# Altium schematic symbol library LimeMicroAltiumLib_schLib.SchLib: 199 symbols (part 5 of 8)
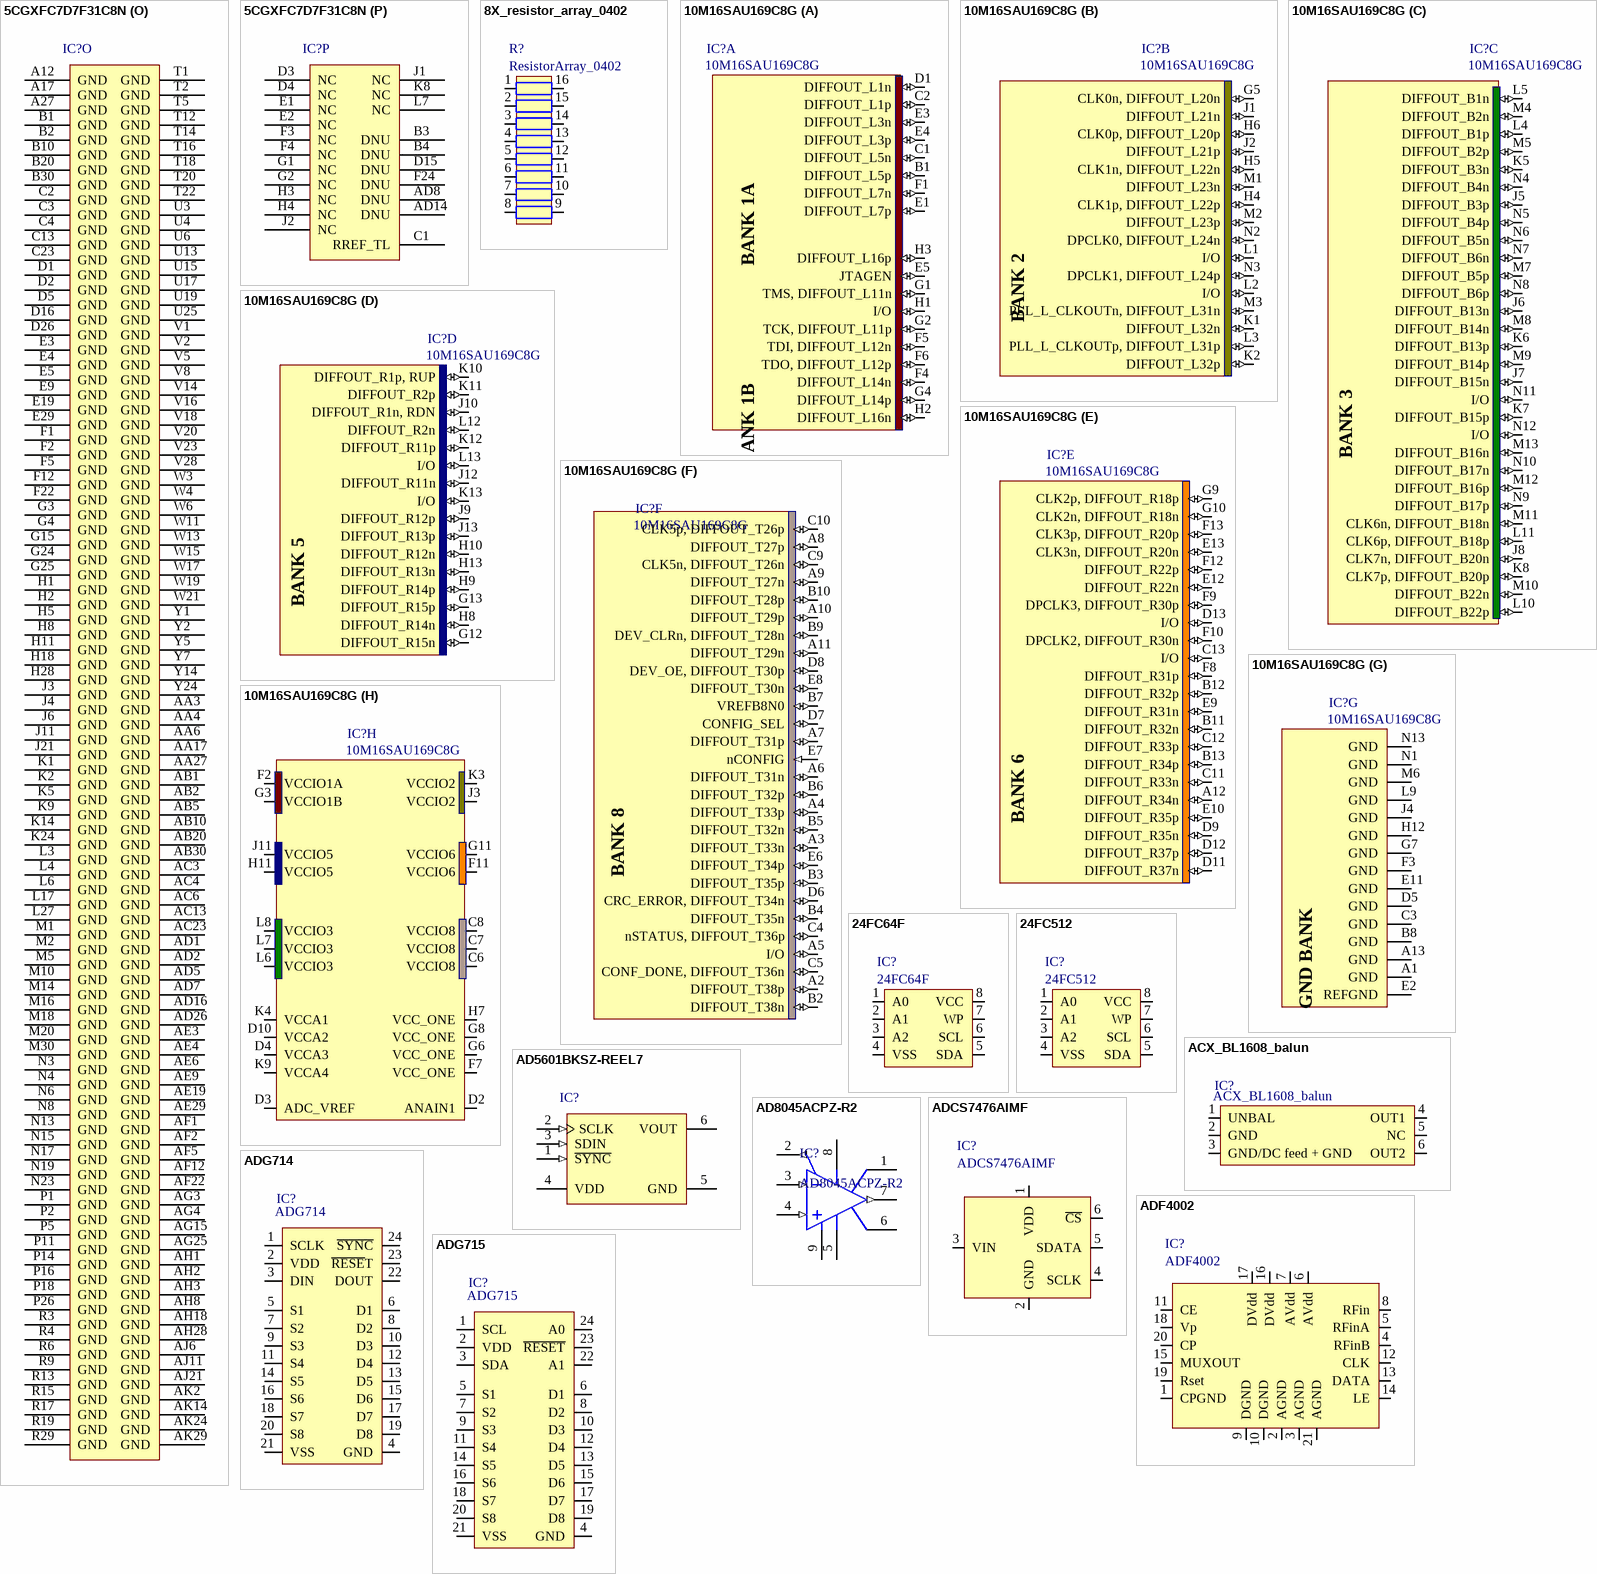
[diagram p38: symbols 5CGXFC7D7F31C8N to ADG715]

## ADF4002
designator IC?
Manufacturer: Analog Devices Inc; Manufacturer Part Number 1: ADF4002BCPZ-RL7; Ratio - Input:Output: 2:1; Differential - Input:Output: Yes/No; Input: CMOS, TTL; Voltage - Supply: 2.7 V ~ 3.3 V; Supplier 1: Digi-Key; Supplier: Digi-Key; Category: Integrated Circuits (ICs); Type: Clock/Frequency Synthesizer (RF), Phase Detector; Operating Temperature: -40°C ~ 85°C; Mounting Type: Surface Mount; Package / Case: 20-VFQFN Exposed Pad, CSP; Supplier Part Number 1: ADF4002BCPZ-RL7CT-ND
footprint ADF4002
pins: 1 CPGND, 2 AGND, 3 AGND, 4 RFinB, 5 RFinA, 6 AVdd, 7 AVdd, 8 RFin, 9 DGND, 10 DGND, 11 CE, 12 CLK, 13 DATA, 14 LE, 15 MUXOUT, 16 DVdd, 17 DVdd, 18 Vp, 19 Rset, 20 CP, 21 AGND

## ADG714
designator IC?
Manufacturer Part Number: ADG715BRUZ; Manufacturer: ANALOG DEVICES; No. of Pins: 24; Analog Switch Case: TSSOP; Analog Switch Type: SPST; Supply Voltage Range: 2.7V to 5.5; On State Resistance Max: 4.5; No. of Channels: 8; Supplier 1: Newark; Operating Temperature Min: -40; RoHS: YES; Supplier Part Number 1: 19M0686
footprint ADG714 (TSOP, 24-Leads, Body 7,80x4,40mm, Pitch 0,65mm, IPC Medium Density)
pins: 1 SCLK, 2 VDD, 3 DIN, 4 GND, 5 S1, 6 D1, 7 S2, 8 D2, 9 S3, 10 D3, 11 S4, 12 D4, 13 D5, 14 S5, 15 D6, 16 S6, 17 D7, 18 S7, 19 D8, 20 S8, 21 VSS, 22 DOUT, 23 ~{RESE}T, 24 ~{SYNC}

## ADG715
designator IC?
Manufacturer: Analog Devices Inc; Manufacturer Part Number 1: ADG715BRUZ; Current - Supply: 10µA; On-State Resistance: 4.5 Ohm; Voltage Supply Source: Single, Dual Supply; Function: Switch; Voltage - Supply, Single/Dual (±): 2.7 V ~ 5.5 V, ±2.5V; Circuit: 8 x SPST - NO; Supplier 1: Digi-Key; RoHS: RoHS Compliant; Operating Temperature: -40°C ~ 85°C; Package / Case: 24-TSSOP (0.173", 4.40mm Width); Category: Integrated Circuits (ICs); Supplier Device Package: 24-TSSOP; Packaging: Tube; Mounting Type: Surface Mount; Supplier Part Number 1: ADG715BRUZ-ND
footprint ADG714 (TSOP, 24-Leads, Body 7,80x4,40mm, Pitch 0,65mm, IPC Medium Density)
pins: 1 SCL, 2 VDD, 3 SDA, 4 GND, 5 S1, 6 D1, 7 S2, 8 D2, 9 S3, 10 D3, 11 S4, 12 D4, 13 D5, 14 S5, 15 D6, 16 S6, 17 D7, 18 S7, 19 D8, 20 S8, 21 VSS, 22 A1, 23 ~{RESET}, 24 A0

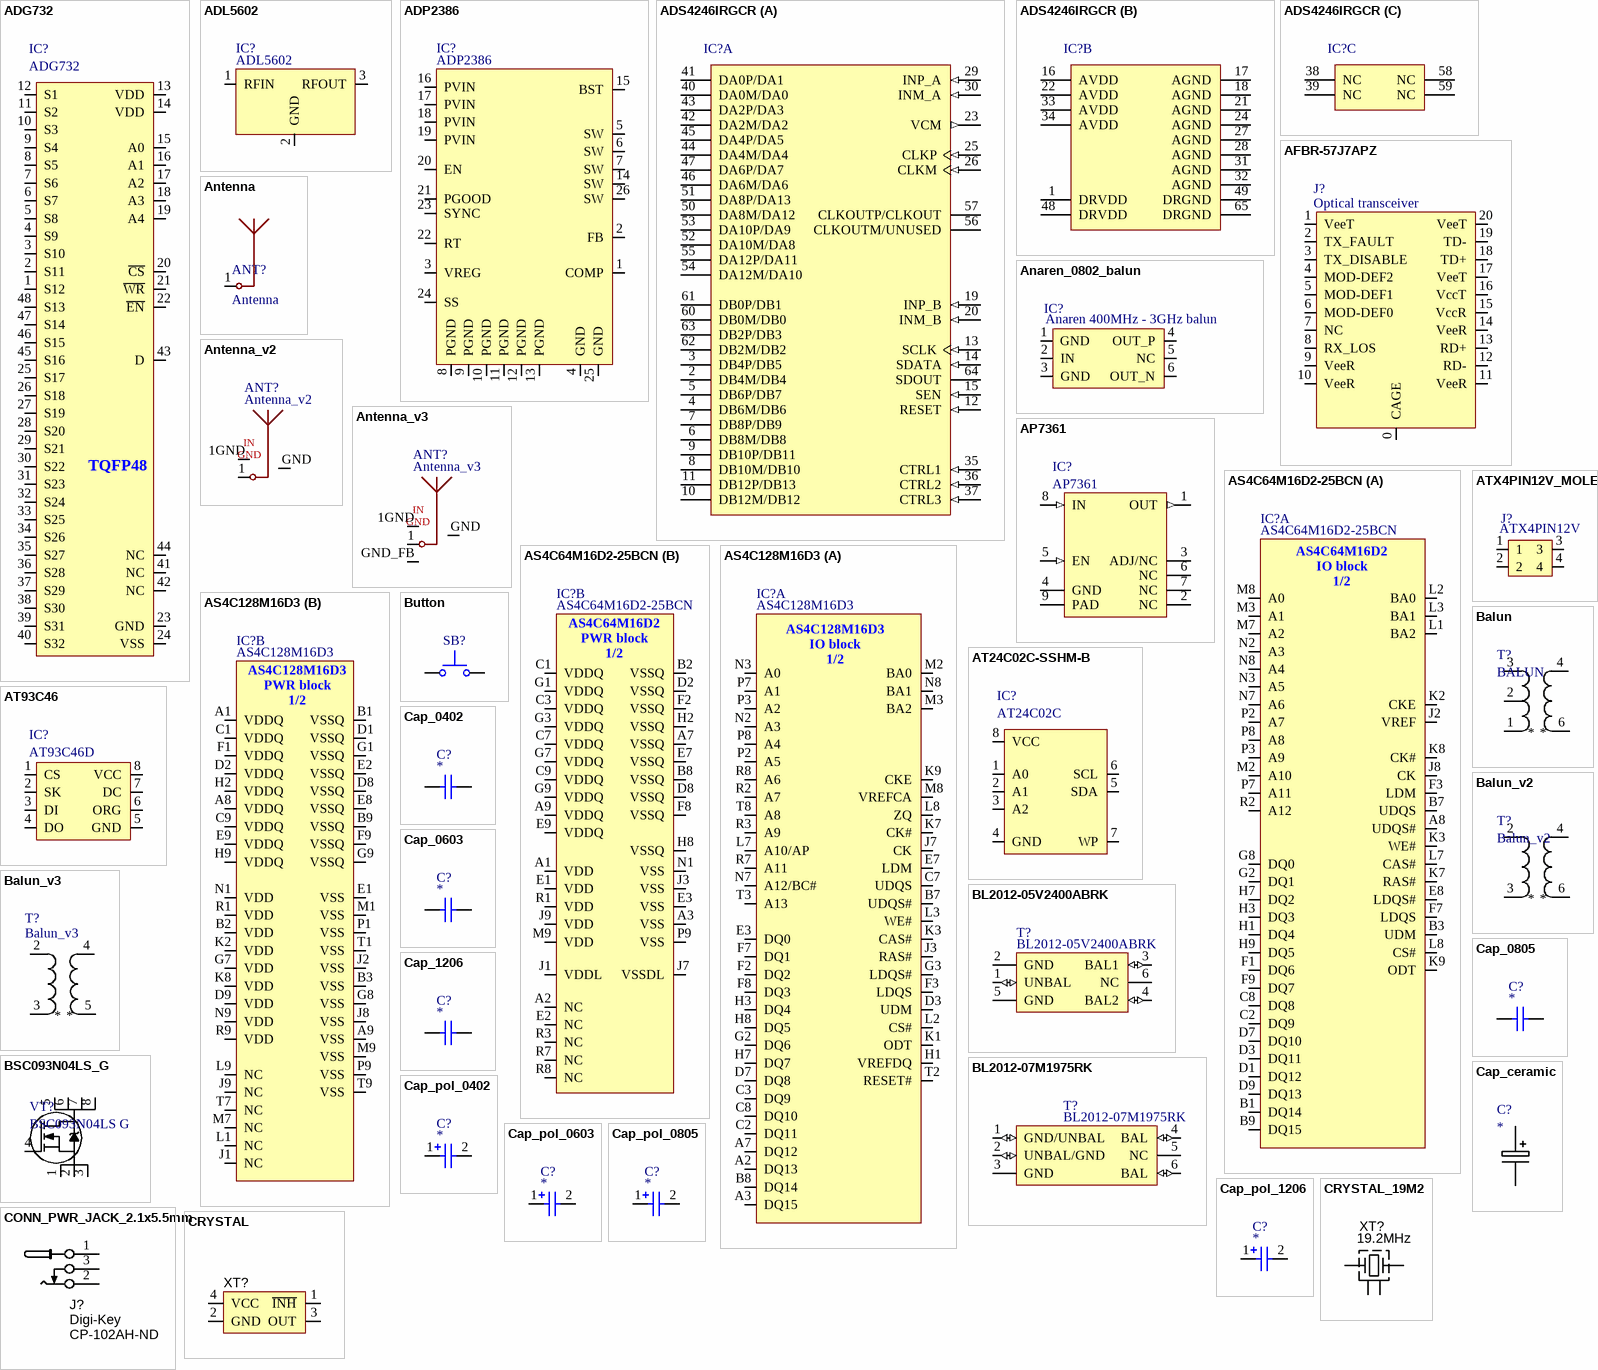
[diagram p16: symbols ADG732 to CRYSTAL_19M2]

## ADG732
designator IC?
Manufacturer: Analog Devices Inc; Manufacturer Part Number 1: ADG732BSUZ; Current - Supply: 10µA; On-State Resistance: 5.5 Ohm; Voltage - Supply, Single/Dual (±): 1.8 V ~ 5.5 V, ±2.5 V; Voltage Supply Source: Single, Dual Supply; Circuit: 1 x 32:1; Function: Multiplexer; Supplier 1: Digi-Key; Package / Case: 48-TQFP; Mounting Type: Surface Mount; Category: Integrated Circuits (ICs); Supplier Device Package: 48-TQFP (7x7); Operating Temperature: -40°C ~ 85°C; RoHS: RoHS Compliant; Packaging: Tray; Supplier Part Number 1: ADG732BSUZ-ND
pins: 1 S12, 2 S11, 3 S10, 4 S9, 5 S8, 6 S7, 7 S6, 8 S5, 9 S4, 10 S3, 11 S2, 12 S1, 13 VDD, 14 VDD, 15 A0, 16 A1, 17 A2, 18 A3, 19 A4, 20 ~{CS}, 21 ~{WR}, 22 ~{EN}, 23 GND, 24 VSS, 25 S17, 26 S18, 27 S19, 28 S20, 29 S21, 30 S22, 31 S23, 32 S24, 33 S25, 34 S26, 35 S27, 36 S28, 37 S29, 38 S30, 39 S31, 40 S32, 41 NC, 42 NC, 43 D, 44 NC, 45 S16, 46 S15, 47 S14, 48 S13
text: TQFP48

## ADL5602
designator IC?
50 MHz to 4.0 GHz RF/IF Gain Block; Manufacturer: Analog Devices Inc.; Manufacturer Part Number: ADL5602ARKZ-R7; RF Type: Cellular, CATV; P1dB: 19.3dBm (85.1mW); Test Frequency: 2GHz; Voltage - Supply: 5V; Gain: 19.5dB; Noise Figure: 3.3dB; Current - Supply: 89mA; Frequency: 50MHz ~ 4GHz; Supplier 1: Digi-Key; Packaging: Digi-Reel®; Category: RF/IF and RFID; Package / Case: TO-243AA; RoHS: RoHS Compliant; Supplier Device Package: SOT-89-3; Supplier Part Number 1: ADL5602ARKZ-R7DKR-ND
footprint SOT-89-ADI-RK-3_M (SOT89, 3-Leads, Body 4.5x2.4 mm, Pitch 1.5mm, Lead Span 4.1mm, IPC Low Density)
pins: 1 RFIN (in) "RF Input. This pin requires a dc blocking capacitor.", 2 GND (power) "Ground. Connect this pin to a low impedance ground plane.", 3 RFOUT (out) "RF Output and Supply Voltage. A dc bias is provided to this pin through an inductor that is connected to the external power supply. The RF path requires a dc blocking capacitor."

## ADP2386
designator IC?
Manufacturer Part Number: ADP2386ACPZN-R7; Manufacturer: Analog Devices Inc.; Function: Step-Down; Voltage - Output (Max): 18V; Synchronous Rectifier: Yes; Output Configuration: Positive; Frequency - Switching: 200kHz ~ 1.4MHz; Number of Outputs: 1; Output Type: Adjustable; Topology: Buck; Voltage - Input (Min): 4.5V; Voltage - Output (Min/Fixed): 0.6V; Voltage - Input (Max): 20V; Current - Output: 6A; Supplier 1: Digi-Key; Packaging: Digi-Reel®; RoHS: RoHS Compliant; Package / Case: 24-WFQFN Exposed Pad, CSP; Operating Temperature: -40°C ~ 125°C (TJ); Supplier Device Package: 24-LFCSP-WQ (4x4); Mounting Type: Surface Mount; Category: Integrated Circuits (ICs); Supplier Part Number 1: ADP2386ACPZN-R7DKR-ND
footprint ADP2386 (QFN, 24-Leads, Body 4,00x4,00mm, Pitch 0,50mm, 2x thermal pads, IPC Medium Density)
pins: 1 COMP, 2 FB, 3 VREG, 4 GND, 5 SW, 6 SW, 7 SW, 8 PGND, 9 PGND, 10 PGND, 11 PGND, 12 PGND, 13 PGND, 14 SW, 15 BST, 16 PVIN, 17 PVIN, 18 PVIN, 19 PVIN, 20 EN, 21 PGOOD, 22 RT, 23 SYNC, 24 SS, 25 GND, 26 SW

## ADS4246IRGCR
designator IC?
14-Bit 160 MSPS Dual Low Power ADC, -40 to 85 degC, 64-pin QFN (RGC64), Green (RoHS & no Sb/Br); Manufacturer: Texas Instruments; PartNumber: ADS4246IRGCR; # Input Channels: 2; Analog Voltage AV/DD(Max)(V): 1.9; Analog Voltage AV/DD(Min)(V): 1.7; Architecture: Pipeline; ENOB(Bits): 11.5; INL(Max)(+/-LSB): 5; Interface: Parallel CMOS, Parallel LVDS; Resolution(Bits): 14; Sample Rate (max)(SPS): 160M; SFDR(dB): 86; SINAD(dB): 72.6; SNR(dB): 72.8; SubFamily: High Speed ADC (>10MSPS); DatasheetVersion: SBAS533C; PackageVersion: 4204106/F, 11/2011; PackageReference: RGC64-7400X7400TP; PackageDescription: 64-Pin Plastic Quad Flatpack No-Lead, Body 9 x 9 mm, Pitch 0.5 mm; Supplier 1: Digi-Key; Supplier Part Number 1: ADS8372IBRHPTG4-ND; Supplier 2: Mouser; Supplier Part Number 2: 595-ADS8372IBRHPTG4; Digital Supply(Max)(V): 1.9; Digital Supply(Min)(V): 1.7; Eco-Plan: Green (RoHS & no Sb/Br); Mounting Technology: Surface Mount; ComponentLink1Description: Manufacturer URL; ComponentLink1URL: http://www.ti.com/; ComponentLink2Description: Datasheet; ComponentLink2URL: http://www.ti.com/general/docs/lit/getliterature.tsp?genericPartNumber=ADS4246&fileType=pdf; ComponentLink3Description: Package Specification; ComponentLink3URL: http://www.ti.com/litv/pdf/mpqf125e
footprint TI-RGC64-7400X7400TP_V (QFN, 64-Leads, Body 9x9mm, Pitch 0.5mm, Thermal Pad 7.4x7.4mm, TI Recommended)
part A pins: 2 DB4M/DB4 (hiz), 3 DB4P/DB5 (hiz), 4 DB6M/DB6 (hiz), 5 DB6P/DB7 (hiz), 6 DB8M/DB8 (hiz), 7 DB8P/DB9 (hiz), 8 DB10M/DB10 (hiz), 9 DB10P/DB11 (hiz), 10 DB12M/DB12 (hiz), 11 DB12P/DB13 (hiz), 12 RESET (in) "Serial interface RESET input. When using the serial interface mode, the internal registers must be initialized through a hardware RESET by applying a high pulse on this pin or by using the software reset option; refer to the (See Datasheet)", 13 SCLK (in) "This pin functions as a serial interface clock input when RESET is low. It controls the low-speed mode selection when RESET is tied high; see Table 5 for detailed information. This pin has an internal 150kohm pull-down (See Datasheet)", 14 SDATA (in) "Serial interface data input; this pin has an internal 150kohm pull-down resistor.", 15 SEN (in) "This pin functions as a serial interface enable input when RESET is low. It controls the output interface and data format selection when RESET is tied high; see Table 6 for detailed information. This pin has an internal (See Datasheet)", 19 INP_B (in) "Differential analog positive input, channel B", 20 INM_B (in) "Differential analog negative input, channel B", 23 VCM (out) "This pin outputs the common-mode voltage (0.95V) that can be used externally to bias the analog input pins", 25 CLKP (in) "Differential clock positive input", 26 CLKM (in) "Differential clock negative input", 29 INP_A (in) "Differential analog positive input, channel A", 30 INM_A (in) "Differential analog negative input, channel A", 35 CTRL1 (in) "Digital control input pins. Together, they control the various power-down modes.", 36 CTRL2 (in) "Digital control input pins. Together, they control the various power-down modes.", 37 CTRL3 (in) "Digital control input pins. Together, they control the various power-down modes.", 40 DA0M/DA0 (hiz), 41 DA0P/DA1 (hiz), 42 DA2M/DA2 (hiz), 43 DA2P/DA3 (hiz), 44 DA4M/DA4 (hiz), 45 DA4P/DA5 (hiz), 46 DA6M/DA6 (hiz), 47 DA6P/DA7 (hiz), 50 DA8M/DA12 (hiz), 51 DA8P/DA13 (hiz), 52 DA10M/DA8 (hiz), 53 DA10P/DA9 (hiz), 54 DA12M/DA10 (hiz), 55 DA12P/DA11 (hiz), 56 CLKOUTM/UNUSED (hiz), 57 CLKOUTP/CLKOUT (hiz), 60 DB0M/DB0 (hiz), 61 DB0P/DB1 (hiz), 62 DB2M/DB2 (hiz), 63 DB2P/DB3 (hiz), 64 SDOUT (hiz) "This pin functions as a serial interface register readout when the READOUT bit is enabled. When READOUT = 0, this pin is in high-impedance state."
part B pins: 1 DRVDD (power) "Output buffer supply", 16 AVDD (power) "Analog power supply", 17 AGND (power) "Analog ground", 18 AGND (power) "Analog ground", 21 AGND (power) "Analog ground", 22 AVDD (power) "Analog power supply", 24 AGND (power) "Analog ground", 27 AGND (power) "Analog ground", 28 AGND (power) "Analog ground", 31 AGND (power) "Analog ground", 32 AGND (power) "Analog ground", 33 AVDD (power) "Analog power supply", 34 AVDD (power) "Analog power supply", 48 DRVDD (power) "Output buffer supply", 49 DRGND (power) "Output buffer ground", 65 DRGND (power) "Output buffer ground"
part C pins: 38 NC "Do not connect, must be floated", 39 NC "Do not connect, must be floated", 58 NC "Do not connect, must be floated", 59 NC "Do not connect, must be floated"

## AFBR-57J7APZ
designator J?, comment Optical transceiver
AFBR-57J7APZ optical transceiver; Manufacturer: Avago Technologies US Inc.; Data Rate: 1.288 ~ 7.3728 Gb/s; Wavelength: 850nm; Connector Type: LC Duplex; Voltage - Supply: 3.3V; Supplier 1: Digi-Key; Category: Optoelectronics; Mounting Type: *; Manufacturer Part Number: AFBR-57J7APZ; RoHS: RoHS Compliant; Applications: Wireless Base Station Receiver; Supplier Part Number 1: 516-2930-ND
footprint AFBR-57J7APZ (Avago Optical Transceiver)
pins: 0 CAGE, 1 VeeT, 2 TX_FAULT, 3 TX_DISABLE, 4 MOD-DEF2, 5 MOD-DEF1, 6 MOD-DEF0, 7 NC, 8 RX_LOS, 9 VeeR, 10 VeeR, 11 VeeR, 12 RD-, 13 RD+, 14 VeeR, 15 VccR, 16 VccT, 17 VeeT, 18 TD+, 19 TD-, 20 VeeT

## Anaren_0802_balun
designator IC?, comment Anaren 400MHz - 3GHz balun
B0430J50100AHF; Frequency Range: 400 MHz to 3000 MHz; Impedance: 100 Ohms; Insertion Loss: 3.4 dB; Supplier 1: Mouser; Mounting: SMD/SMT; Packaging: Reel; Product: Baluns; Category: Signal Conditioning; RoHS: RoHS Compliant; Manufacturer Part Number 1: B0430J50100AHF; Package / Case: 0805 (2012 metric); Manufacturer: Anaren; Operating Temperature Range: - 55 C to + 85 C; Termination Style: SMD/SMT; Brand: Anaren; Type: Ultral Low Profile Balun; Standard Pack Qty: 4000; Tradename: Xinger; RoHS - Mouser: Y; Minimum Order Quantity: 1; Reeling: True; Supplier Part Number 1: 620-B0430J50100AHF
footprint Anaren_0805_balun (B0430J50100AHF anaren smd 0.4 GHz - 3 GHz balun)
pins: 1 GND, 2 IN, 3 GND, 4 OUT_P, 5 NC, 6 OUT_N

## Antenna
designator ANT?
pins: 1

## Antenna_v2
designator ANT?
Manufacturer Part Number 1: *; Supplier Part Number 1: *; Supplier 1: *
pins: 1, 1GND 1, GND
text: IN GND

## Antenna_v3
designator ANT?
Manufacturer Part Number 1: *; Supplier Part Number 1: *; Supplier 1: *
pins: 1, 1GND 1, GND, GND_FB FB
text: IN GND

## AP7361
designator IC?
Manufacturer Part Number 1: AP7361-33FGE-7; Manufacturer: Diodes Incorporated; Voltage - Output: 3.3V; Regulator Topology: Positive Fixed; Current - Output: 1A; Voltage - Input: Up to 6V; Current - Limit (Min): 1.1A; Voltage - Dropout (Typical): 0.5V @ 1A; Number of Regulators: 1; Supplier 1: Digi-Key; RoHS: RoHS Compliant; Packaging: Cut Tape (CT); Category: Integrated Circuits (ICs); Operating Temperature: -40°C ~ 85°C; Package / Case: 8-UDFN Exposed Pad; Mounting Type: Surface Mount; Supplier Device Package: U-DFN3030-8; Supplier Part Number 1: AP7361-33FGE-7DICT-ND
footprint AP7361 (Low noise LDO)
pins: 1 OUT (out), 2 NC, 3 ADJ/NC, 4 GND, 5 EN (in), 6 NC, 7 NC, 8 IN (in), 9 PAD

## AS4C64M16D2-25BCN
designator IC?
Manufacturer: Alliance Memory, Inc.; Speed: 400MHz; Interface: Parallel; Memory Type: DDR2 SDRAM; Memory Size: 1G (64M x 16); Voltage - Supply: 1.7 V ~ 1.9 V; Format - Memory: RAM; Supplier 1: Digi-Key; Package / Case: 84-TFBGA; Supplier Device Package: 84-FBGA (8x12.5); Manufacturer Part Number 1: AS4C64M16D2-25BCN; RoHS: RoHS Compliant; Operating Temperature: 0°C ~ 70°C; Category: Integrated Circuits (ICs); Packaging: Tray; Supplier Part Number 1: 1450-1158-ND
footprint AS4C64M16D2
part A pins: A8 UDQS#, B1 DQ14, B3 UDM, B7 UDQS, B9 DQ15, C2 DQ9, C8 DQ8, D1 DQ12, D3 DQ11, D7 DQ10, D9 DQ13, E8 LDQS#, F1 DQ6, F3 LDM, F7 LDQS, F9 DQ7, G2 DQ1, G8 DQ0, H1 DQ4, H3 DQ3, H7 DQ2, H9 DQ5, J2 VREF, J8 CK, K2 CKE, K3 WE#, K7 RAS#, K8 CK#, K9 ODT, L1 BA2, L2 BA0, L3 BA1, L7 CAS#, L8 CS#, M2 A10, M3 A1, M7 A2, M8 A0, N2 A3, N3 A5, N7 A6, N8 A4, P2 A7, P3 A9, P7 A11, P8 A8, R2 A12
part B pins: A1 VDD (power), A2 NC, A3 VSS (power), A7 VSSQ (power), A9 VDDQ (power), B2 VSSQ (power), B8 VSSQ (power), C1 VDDQ (power), C3 VDDQ (power), C7 VDDQ (power), C9 VDDQ (power), D2 VSSQ (power), D8 VSSQ (power), E1 VDD (power), E2 NC, E3 VSS (power), E7 VSSQ (power), E9 VDDQ (power), F2 VSSQ (power), F8 VSSQ (power), G1 VDDQ (power), G3 VDDQ (power), G7 VDDQ (power), G9 VDDQ (power), H2 VSSQ (power), H8 VSSQ (power), J1 VDDL (power), J3 VSS (power), J7 VSSDL (power), J9 VDD (power), M9 VDD (power), N1 VSS (power), P9 VSS (power), R1 VDD (power), R3 NC, R7 NC, R8 NC
part A text: AS4C64M16D2 / IO block / 1/2
part B text: AS4C64M16D2 / PWR block / 1/2

## AS4C128M16D3
designator IC?
Manufacturer: Alliance Memory, Inc.; Memory Size: 2G (128M x 16); Interface: Parallel; Voltage - Supply: 1.425 V ~ 1.575 V; Format - Memory: RAM; Supplier 1: Digi-Key; Supplier Part Number 1: 1450-1083-ND; Supplier Device Package: 96-FBGA (13x9); Package / Case: 96-TFBGA; Supplier: Digi-Key; Category: Integrated Circuits (ICs)
part A pins: A2 DQ13, A3 DQ15, A7 DQ12, B7 UDQS#, B8 DQ14, C2 DQ11, C3 DQ9, C7 UDQS, C8 DQ10, D3 UDM, D7 DQ8, E3 DQ0, E7 LDM, F2 DQ2, F3 LDQS, F7 DQ1, F8 DQ3, G2 DQ6, G3 LDQS#, H1 VREFDQ, H3 DQ4, H7 DQ7, H8 DQ5, J3 RAS#, J7 CK, K1 ODT, K3 CAS#, K7 CK#, K9 CKE, L2 CS#, L3 WE#, L7 A10/AP, L8 ZQ, M2 BA0, M3 BA2, M8 VREFCA, N2 A3, N3 A0, N7 A12/BC#, N8 BA1, P2 A5, P3 A2, P7 A1, P8 A4, R2 A7, R3 A9, R7 A11, R8 A6, T2 RESET#, T3 A13, T8 A8
part B pins: A1 VDDQ (power), A8 VDDQ (power), A9 VSS (power), B1 VSSQ (power), B2 VDD (power), B3 VSS (power), B9 VSSQ (power), C1 VDDQ (power), C9 VDDQ (power), D1 VSSQ (power), D2 VDDQ (power), D8 VSSQ (power), D9 VDD (power), E1 VSS (power), E2 VSSQ (power), E8 VSSQ (power), E9 VDDQ (power), F1 VDDQ (power), F9 VSSQ (power), G1 VSSQ (power), G7 VDD (power), G8 VSS (power), G9 VSSQ (power), H2 VDDQ (power), H9 VDDQ (power), J1 NC, J2 VSS (power), J8 VSS (power), J9 NC, K2 VDD (power), K8 VDD (power), L1 NC, L9 NC, M1 VSS (power), M7 NC, M9 VSS (power), N1 VDD (power), N9 VDD (power), P1 VSS (power), P9 VSS (power), R1 VDD (power), R9 VDD (power), T1 VSS (power), T7 NC, T9 VSS (power)
part A text: AS4C128M16D3 / IO block / 1/2
part B text: AS4C128M16D3 / PWR block / 1/2

## AT24C02C-SSHM-B
designator IC?, comment AT24C02C
Manufacturer: ATMEL; Manufacturer Part Number 1: AT24C02C-SSHM-T; Supplier 1: Farnell; Supplier Part Number 1: 2345577
footprint SOIC127P600-8DL_v2 (8-Pin Small Outline Integrated Circuit 1.27 mm Pitch)
pins: 1 A0, 2 A1, 3 A2, 4 GND, 5 SDA, 6 SCL, 7 WP, 8 VCC

## AT93C46
designator IC?, comment AT93C46D
Manufacturer: Atmel; Manufacturer Part Number: AT93C46DN-SH-T; Voltage - Supply: 1.8 V ~ 5.5 V; Format - Memory: EEPROMs - Serial; Memory Size: 1K (128 x 8 or 64 x 16); Speed: 250kHz, 1MHz, 2MHz; Supplier 1: Digi-Key; Category: Integrated Circuits (ICs); Supplier Device Package: 8-SOIC; Supplier Part Number: AT93C46DN-SH-TCT-ND
footprint MIC37122YM TR_SO8 (SOIC, 8-Leads, Body 4,90x3,90mm, Pitch 1,27mm, IPC Medium Density)
pins: 1 CS, 2 SK, 3 DI, 4 DO, 5 GND, 6 ORG, 7 DC, 8 VCC

## ATX4PIN12V_MOLEX
designator J?, comment ATX4PIN12V
Manufacturer Part Number: 0039281043; Manufacturer: Molex Inc.; Number of Positions Loaded: All; Pitch: 0.165" (4.20mm); Connector Type: Header, Shrouded; Number of Positions: 4; Supplier 1: Digi-Key; RoHS: RoHS Compliant; Packaging: Bulk; Contact Type: Male Pin; Category: Connectors, Interconnects; Features: -; Number of Rows: 2; Row Spacing: 0.165" (4.20mm); Termination: Solder; Contact Finish Thickness: 35µin (0.90µm); Mounting Type: Through Hole; Fastening Type: Locking Ramp; Color: Natural; Contact Finish: Tin; Contact Mating Length: -; Supplier Part Number 1: WM3801-ND
footprint ATX4PIN12V_MOLEX
pins: 1, 2, 3, 4

## Balun
designator T?, comment BALUN
pins: 1, 2, 3, 4, 6

## Balun_v2
designator T?
pins: 2, 3, 4, 6

## Balun_v3
designator T?
pins: 2, 3, 4, 5

## BL2012-05V2400ABRK
designator T?
Part Description: RF balun; 900MHz-3.8GHz; 50R, 1:1, 2012 package; Manufacturer 1: Advanced Ceramic X (ACX); Supplier 1: Advanced Ceramic X (ACX); Manufacturer Part Number 1: BL2012-05V2400ABRK; Supplier Part Number 1: BL2012-05V2400ABRK
footprint BL2012-05V2400ABRK
pins: 1 UNBAL (io), 2 GND, 3 BAL1 (io), 4 BAL2 (io), 5 GND, 6 NC

## BL2012-07M1975RK
designator T?
Part Description: RF balun; 950MHz-3.5GHz; 50R (original impedance 75R), 1:1, 2012 package; Manufacturer 1: Advanced Ceramic X (ACX); Supplier 1: Advanced Ceramic X (ACX); Manufacturer Part Number 1: BL2012-07M1975RK; Supplier Part Number 1: BL2012-07M1975RK
footprint BL2012-07M1975RK
pins: 1 GND/UNBAL (io), 2 UNBAL/GND (io), 3 GND, 4 BAL (io), 5 NC, 6 BAL (io)

## BSC093N04LS_G
designator VT?, comment BSC093N04LS G
Manufacturer: Infineon Technologies; Power - Max: 35W; Vgs(th) (Max) @ Id: 2V @ 14µA; Current - Continuous Drain (Id) @ 25°C: 13A (Ta), 49A (Tc); FET Type: MOSFET N-Channel, Metal Oxide; Rds On (Max) @ Id, Vgs: 9.3 mOhm @ 40A, 10V; Gate Charge (Qg) @ Vgs: 24nC @ 10V; Input Capacitance (Ciss) @ Vds: 1900pF @ 20V; Drain to Source Voltage (Vdss): 40V; Supplier 1: Digi-Key; Category: Discrete Semiconductor Products; Manufacturer Part Number: BSC093N04LS G; Package / Case: 8-PowerTDFN; Supplier Part Number 1: BSC093N04LS GDKR-ND
footprint BSC093N04LS_G (SON, 8-Leads, Body 5,32x6,15mm, Pitch 1,27mm, Thermal Pad 3,60x4,05mm, IPC Medium Density)
pins: 1 S, 2 S, 3 S, 4 G, 5 D, 6 D, 7 D, 8 D

## Button
designator SB?  (value not drawn)
pins: 1, 2

## Cap_0402
designator C?
Value: *
footprint CAP0402 (Chip Capacitor, Body 1.0x0.5mm, 0402, IPC Medium Density)
pins: 1, 2

## Cap_0603
designator C?
Value: *
footprint CAP0603 (Chip Capacitor, Body 1.6x0.8mm, 0603, IPC Medium Density)
pins: 1, 2

## Cap_0805
designator C?
Value: *
footprint CAP0805 (Chip Capacitor, Body 2.0x1.2mm, 0805, IPC Medium Density)
pins: 1, 2

## Cap_1206
designator C?
Value: *
footprint CAP1206 (Chip Capacitor, Body 3.2x1.6mm, 1206, IPC Medium Density)
pins: 1, 2

## Cap_ceramic
designator C?
Value: *
footprint Cap_pol_100uF
pins: 1, 2

## Cap_pol_0402
designator C?
Value: *
pins: 1, 2

## Cap_pol_0603
designator C?
Value: *
pins: 1, 2

## Cap_pol_0805
designator C?
Value: *
pins: 1, 2

## Cap_pol_1206
designator C?
Value: *
pins: 1, 2

## CONN_PWR_JACK_2.1x5.5mm
designator J?  Supplier 1: Digi-Key  Supplier Part Number 1: CP-102AH-ND  (hidden comment: *)
Power Connector, THT, 2.1mm ID, 5.5mm OD; Manufacturer 1: CUI Inc; Manufacturer Part Number 1: PJ-102AH; Category: Connectors; Mounting Type: Through Hole; Package / Case: PCB mount; Value: 2.1mm ID, 5.5mm OD
footprint CONN_PWR_JACK_2.1x5.5mm (Power Connector, 2.1mm ID, 5.5mm OD)
pins: 1, 2, 3

## CRYSTAL
designator XT?
Oscillator Crystal
footprint CRYSTAL_4-LCC_v3 (SMD Crystal 4-lead leadless package)
pins: 1 ~{INH}, 2 GND, 3 OUT, 4 VCC

## CRYSTAL_19M2
designator XT?, comment 19.2MHz
Oscillator Crystal 27.12 MHz 10ppm; Manufacturer 1: TXC CORPORATION; Manufacturer Part Number 1: 7M-27.120MEEQ-T; Ratings: 4.9152 MHz Crystal; Load Capacitance: 10pF; Operating Mode: Fundamental; Package / Case: 2.5mm pitch; Material: Ceramic; Supplier 1: Digi-Key; Supplier Part Number 1: 887-1329-1-ND; Type: MHz Crystal; Frequency Stability: ±10ppm; Frequency Tolerance: ±10ppm; Operating Temperature: -20°C ~ 70°C; Mounting Type: Surface Mount; Size / Dimension: 0.126" L x 0.098" W (3.20mm x 2.50mm); ComponentLink1URL: http://www.txccrystal.com/images/pdf/7m-accuracy.pdf; ComponentLink1Description: http://www.txccrystal.com/images/pdf/7m-accuracy.pdf
footprint CRYSTAL_4-LCC (SMD Crystal 4-lead leadless package)
pins: 1 X, 2 GND, 3 X, 4 GND

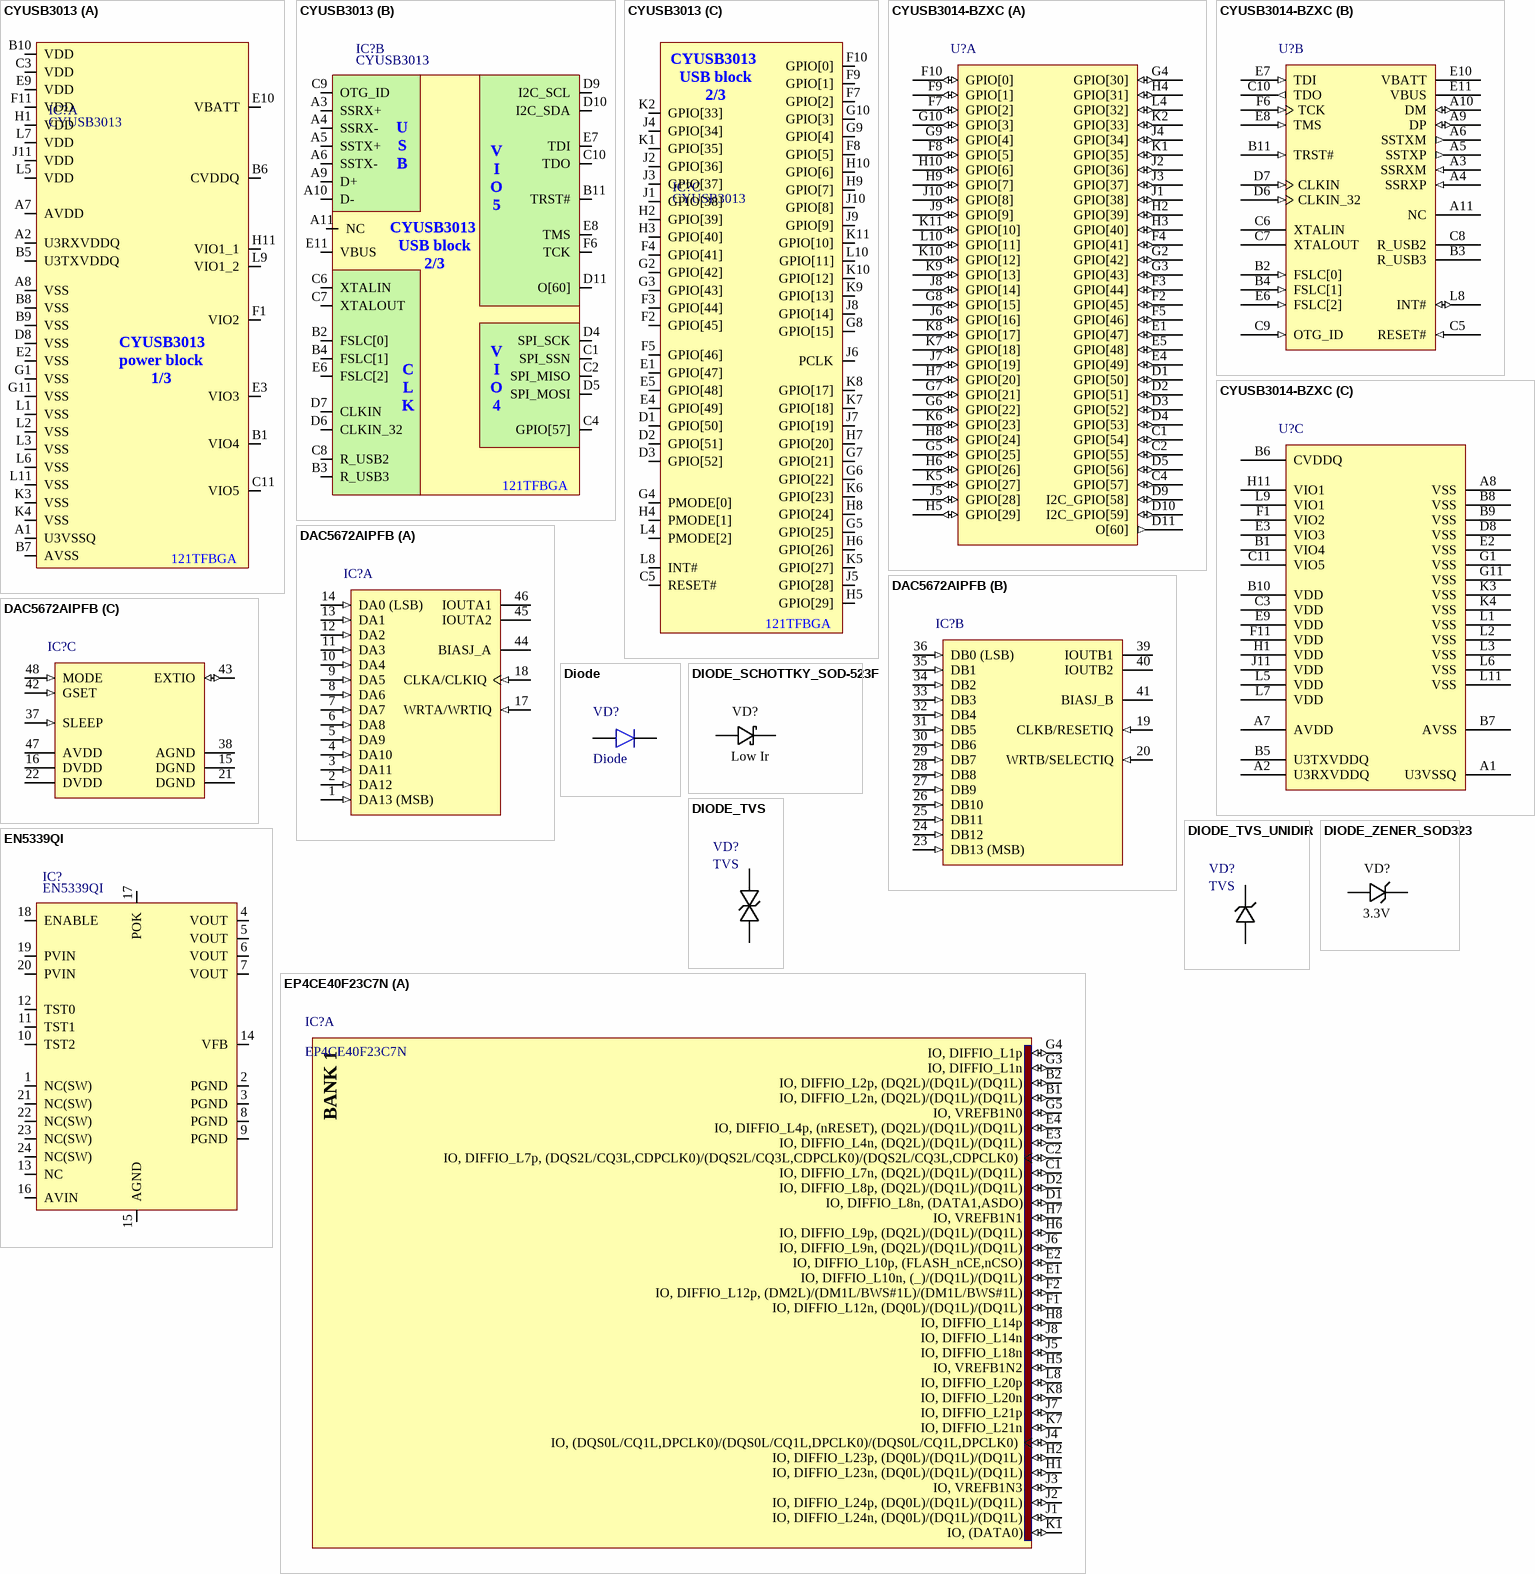
[diagram p17: symbols CYUSB3013 to EP4CE40F23C7N]

## CYUSB3013
designator IC?
Cypress USB3.0 chip; Voltage - Supply: 1.15 V ~ 1.25 V; Supplier 1: Digi-Key; Supplier Part Number 1: 428-3181-ND; Package / Case: 121-TFBGA
footprint CYUSB3013 (BGA, 121-Leads, Body 10,50x10,50mmx1,10mm, Pitch 0,80mm)
part A pins: A1 U3VSSQ (power), A2 U3RXVDDQ (power), A7 AVDD (power), A8 VSS (power), B1 VIO4 (power), B5 U3TXVDDQ (power), B6 CVDDQ (power), B7 AVSS (power), B8 VSS (power), B9 VSS (power), B10 VDD (power), C3 VDD (power), C11 VIO5 (power), D8 VSS (power), E2 VSS (power), E3 VIO3 (power), E9 VDD (power), E10 VBATT (power), F1 VIO2 (power), F11 VDD (power), G1 VSS (power), G11 VSS (power), H1 VDD (power), H11 VIO1_1 (power), J11 VDD (power), K3 VSS (power), K4 VSS (power), L1 VSS (power), L2 VSS (power), L3 VSS (power), L5 VDD (power), L6 VSS (power), L7 VDD (power), L9 VIO1_2 (power), L11 VSS (power)
part B pins: A3 SSRX+, A4 SSRX-, A5 SSTX+, A6 SSTX-, A9 D+, A10 D-, A11 NC, B2 FSLC[0], B3 R_USB3, B4 FSLC[1], B11 TRST#, C1 SPI_SSN, C2 SPI_MISO, C4 GPIO[57], C6 XTALIN, C7 XTALOUT, C8 R_USB2, C9 OTG_ID, C10 TDO, D4 SPI_SCK, D5 SPI_MOSI, D6 CLKIN_32 (in), D7 CLKIN (in), D9 I2C_SCL, D10 I2C_SDA, D11 O[60], E6 FSLC[2], E7 TDI, E8 TMS, E11 VBUS (power), F6 TCK
part C pins: C5 RESET#, D1 GPIO[50], D2 GPIO[51], D3 GPIO[52], E1 GPIO[47], E4 GPIO[49], E5 GPIO[48], F2 GPIO[45], F3 GPIO[44], F4 GPIO[41], F5 GPIO[46], F7 GPIO[2], F8 GPIO[5], F9 GPIO[1], F10 GPIO[0], G2 GPIO[42], G3 GPIO[43], G4 PMODE[0], G5 GPIO[25], G6 GPIO[22], G7 GPIO[21], G8 GPIO[15], G9 GPIO[4], G10 GPIO[3], H2 GPIO[39], H3 GPIO[40], H4 PMODE[1], H5 GPIO[29], H6 GPIO[26], H7 GPIO[20], H8 GPIO[24], H9 GPIO[7], H10 GPIO[6], J1 GPIO[38], J2 GPIO[36], J3 GPIO[37], J4 GPIO[34], J5 GPIO[28], J6 PCLK (in), J7 GPIO[19], J8 GPIO[14], J9 GPIO[9], J10 GPIO[8], K1 GPIO[35], K2 GPIO[33], K5 GPIO[27], K6 GPIO[23], K7 GPIO[18], K8 GPIO[17], K9 GPIO[13], K10 GPIO[12], K11 GPIO[10], L4 PMODE[2], L8 INT#, L10 GPIO[11]
part A text: CYUSB3013 / power block / 1/3; 121TFBGA
part B text: U / S / B; V / I / O / 5; CYUSB3013 / USB block / 2/3; C / L / K; V / I / O / 4; 121TFBGA
part C text: CYUSB3013 / USB block / 2/3; 121TFBGA

## CYUSB3014-BZXC
designator U?
EZ-USB(R) FX3: SuperSpeed USB Controller, 512 KB, 60 I/Os, 0 to 70 degC, 121-Pin FBGA (BZX121); Manufacturer: Cypress; PartNumber: CYUSB3014-BZXC; CPU Core: ARM926 EJ-S; Max. Operating Voltage (V): 1.25; Memory Architecture: SRAM; Memory Size (KB): 512; Min. Operating Voltage (V): 1.15; No. of I/Os: 60; DatasheetVersion: Rev. *O; PackageVersion: Rev. *D; PackageReference: BZX121; PackageDescription: 121-Ball FBGA, Body 10 x 10 mm, Pitch 0.8 mm; Supplier 1: Digi-Key; Supplier Part Number 1: 428-3182-ND; Supplier 2: Farnell; Supplier Part Number 2: 2355789; Supplier 3: Newark; Supplier Part Number 3: 54W7901; Supplier 4: Mouser; Supplier Part Number 4: 727-CYUSB3014-BZXC; Max. Operating Temp. (degreesC): 70; Min. Operating Temp. (degreesC): 0; RoHS: Pb-Free; Mounting Technology: Surface Mount; Code_JEDEC: PUB 95; ComponentLink1Description: Manufacturer URL; ComponentLink1URL: http://www.cypress.com/; ComponentLink2Description: Datasheet; ComponentLink2URL: http://www.cypress.com/?docID=49087; ComponentLink3Description: Package Specification; ComponentLink3URL: http://www.cypress.com/?docID=45795
footprint CYP-BZX121 (BGA, 121-Balls, Body 10x10mm, Pitch 0.8mm)
part A pins: C1 GPIO[54] (io), C2 GPIO[55] (io), C4 GPIO[57] (io), D1 GPIO[50] (io), D2 GPIO[51] (io), D3 GPIO[52] (io), D4 GPIO[53] (io), D5 GPIO[56] (io), D9 I2C_GPIO[58] (io), D10 I2C_GPIO[59] (io), D11 O[60] (out), E1 GPIO[47] (io), E4 GPIO[49] (io), E5 GPIO[48] (io), F2 GPIO[45] (io), F3 GPIO[44] (io), F4 GPIO[41] (io), F5 GPIO[46] (io), F7 GPIO[2] (io), F8 GPIO[5] (io), F9 GPIO[1] (io), F10 GPIO[0] (io), G2 GPIO[42] (io), G3 GPIO[43] (io), G4 GPIO[30] (io), G5 GPIO[25] (io), G6 GPIO[22] (io), G7 GPIO[21] (io), G8 GPIO[15] (io), G9 GPIO[4] (io), G10 GPIO[3] (io), H2 GPIO[39] (io), H3 GPIO[40] (io), H4 GPIO[31] (io), H5 GPIO[29] (io), H6 GPIO[26] (io), H7 GPIO[20] (io), H8 GPIO[24] (io), H9 GPIO[7] (io), H10 GPIO[6] (io), J1 GPIO[38] (io), J2 GPIO[36] (io), J3 GPIO[37] (io), J4 GPIO[34] (io), J5 GPIO[28] (io), J6 GPIO[16] (io), J7 GPIO[19] (io), J8 GPIO[14] (io), J9 GPIO[9] (io), J10 GPIO[8] (io), K1 GPIO[35] (io), K2 GPIO[33] (io), K5 GPIO[27] (io), K6 GPIO[23] (io), K7 GPIO[18] (io), K8 GPIO[17] (io), K9 GPIO[13] (io), K10 GPIO[12] (io), K11 GPIO[10] (io), L4 GPIO[32] (io), L10 GPIO[11] (io)
part B pins: A3 SSRXM (in), A4 SSRXP (in), A5 SSTXP (out), A6 SSTXM (out), A9 DP (io), A10 DM (io), A11 NC, B2 FSLC[0] (in), B3 R_USB3, B4 FSLC[1] (in), B11 TRST# (in), C5 RESET# (in), C6 XTALIN, C7 XTALOUT, C8 R_USB2, C9 OTG_ID (in), C10 TDO (out), D6 CLKIN_32 (in), D7 CLKIN (in), E6 FSLC[2] (in), E7 TDI (in), E8 TMS (in), E10 VBATT (power), E11 VBUS (power), F6 TCK (in), L8 INT# (io)
part C pins: A1 U3VSSQ (power), A2 U3RXVDDQ (power), A7 AVDD (power), A8 VSS (power), B1 VIO4 (power), B5 U3TXVDDQ (power), B6 CVDDQ (power), B7 AVSS (power), B8 VSS (power), B9 VSS (power), B10 VDD (power), C3 VDD (power), C11 VIO5 (power), D8 VSS (power), E2 VSS (power), E3 VIO3 (power), E9 VDD (power), F1 VIO2 (power), F11 VDD (power), G1 VSS (power), G11 VSS (power), H1 VDD (power), H11 VIO1 (power), J11 VDD (power), K3 VSS (power), K4 VSS (power), L1 VSS (power), L2 VSS (power), L3 VSS (power), L5 VDD (power), L6 VSS (power), L7 VDD (power), L9 VIO1 (power), L11 VSS (power)

## DAC5672AIPFB
designator IC?
14-Bit 275 MSPS Dual Digital to Analog Converter, -40 to 85 degC, 48-pin QFP (PFB48), Green (RoHS & no Sb/Br); Manufacturer: Texas Instruments; PartNumber: DAC5672AIPFB; DAC Channels: 2; DNL(Max)(+/-LSB): 3; INL(Max)(+/-LSB): 4; Interface: Parallel CMOS; Power Consumption(Typ)(mW): 330; Resolution(Bits): 14; Settling Time(us): 0.02; SFDR(dB): 84; SNR(dB): 77; SubFamily: High Speed DAC (>10MSPS); DatasheetVersion: SLAS528A; PackageVersion: 4073176/B, 10/1996; PackageReference: PFB48; PackageDescription: 48-Pin Plastic Flat Pack, Body 7 x 7 mm, Pitch 0.5 mm; Supplier 1: Digi-Key; Supplier Part Number 1: 296-22616-ND; Supplier 2: Newark; Supplier Part Number 2: 58M0323; Supplier 3: Mouser; Supplier Part Number 3: 595-DAC5672AIPFB; Eco-Plan: Green (RoHS & no Sb/Br); Mounting Technology: Surface Mount; Code_JEDEC: MS-026; ComponentLink1Description: Manufacturer URL; ComponentLink1URL: http://www.ti.com/; ComponentLink2Description: Datasheet; ComponentLink2URL: http://www.ti.com/general/docs/lit/getliterature.tsp?genericPartNumber=DAC5672A&fileType=pdf; ComponentLink3Description: Package Specification; ComponentLink3URL: http://www.ti.com/lit/ml/mtqf019a/mtqf019a.pdf
footprint TI-PFB48_L (QFP, 48-Leads, Body 7x7mm, Pitch 0.5mm, IPC High Density)
footprint TI-PFB48_L (QFP, 48-Leads, Body 7x7mm, Pitch 0.5mm, IPC High Density)
footprint TI-PFB48_M (QFP, 48-Leads, Body 7x7mm, Pitch 0.5mm, IPC Low Density)
part A pins: 1 DA13 (MSB) (in) "Data port A. DA13 is MSB and DA0 is LSB. Internal pulldown.", 2 DA12 (in) "Data port A. DA13 is MSB and DA0 is LSB. Internal pulldown.", 3 DA11 (in) "Data port A. DA13 is MSB and DA0 is LSB. Internal pulldown.", 4 DA10 (in) "Data port A. DA13 is MSB and DA0 is LSB. Internal pulldown.", 5 DA9 (in) "Data port A. DA13 is MSB and DA0 is LSB. Internal pulldown.", 6 DA8 (in) "Data port A. DA13 is MSB and DA0 is LSB. Internal pulldown.", 7 DA7 (in) "Data port A. DA13 is MSB and DA0 is LSB. Internal pulldown.", 8 DA6 (in) "Data port A. DA13 is MSB and DA0 is LSB. Internal pulldown.", 9 DA5 (in) "Data port A. DA13 is MSB and DA0 is LSB. Internal pulldown.", 10 DA4 (in) "Data port A. DA13 is MSB and DA0 is LSB. Internal pulldown.", 11 DA3 (in) "Data port A. DA13 is MSB and DA0 is LSB. Internal pulldown.", 12 DA2 (in) "Data port A. DA13 is MSB and DA0 is LSB. Internal pulldown.", 13 DA1 (in) "Data port A. DA13 is MSB and DA0 is LSB. Internal pulldown.", 14 DA0 (LSB) (in) "Data port A. DA13 is MSB and DA0 is LSB. Internal pulldown.", 17 WRTA/WRTIQ (in) "Input write signal for PORT A (WRTIQ in interleaving mode)", 18 CLKA/CLKIQ (in) "Clock input for DACA, CLKIQ in interleaved mode", 44 BIASJ_A "Full-scale output current bias for DACA", 45 IOUTA2 (hiz) "DACA complementary current output. Full-scale with all bits of DA low.", 46 IOUTA1 (hiz) "DACA current output. Full-scale with all bits of DA high."
part B pins: 19 CLKB/RESETIQ (in) "Clock input for DACB, RESETIQ in interleaved mode", 20 WRTB/SELECTIQ (in) "Input write signal for PORT B (SELECTIQ in interleaving mode)", 23 DB13 (MSB) (in) "Data port B. DB13 is MSB and DB0 is LSB. Internal pulldown.", 24 DB12 (in) "Data port B. DB13 is MSB and DB0 is LSB. Internal pulldown.", 25 DB11 (in) "Data port B. DB13 is MSB and DB0 is LSB. Internal pulldown.", 26 DB10 (in) "Data port B. DB13 is MSB and DB0 is LSB. Internal pulldown.", 27 DB9 (in) "Data port B. DB13 is MSB and DB0 is LSB. Internal pulldown.", 28 DB8 (in) "Data port B. DB13 is MSB and DB0 is LSB. Internal pulldown.", 29 DB7 (in) "Data port B. DB13 is MSB and DB0 is LSB. Internal pulldown.", 30 DB6 (in) "Data port B. DB13 is MSB and DB0 is LSB. Internal pulldown.", 31 DB5 (in) "Data port B. DB13 is MSB and DB0 is LSB. Internal pulldown.", 32 DB4 (in) "Data port B. DB13 is MSB and DB0 is LSB. Internal pulldown.", 33 DB3 (in) "Data port B. DB13 is MSB and DB0 is LSB. Internal pulldown.", 34 DB2 (in) "Data port B. DB13 is MSB and DB0 is LSB. Internal pulldown.", 35 DB1 (in) "Data port B. DB13 is MSB and DB0 is LSB. Internal pulldown.", 36 DB0 (LSB) (in) "Data port B. DB13 is MSB and DB0 is LSB. Internal pulldown.", 39 IOUTB1 (hiz) "DACB current output. Full-scale with all bits of DB high.", 40 IOUTB2 (hiz) "DACB complementary current output. Full-scale with all bits of DB low.", 41 BIASJ_B "Full-scale output current bias for DACB"
part C pins: 15 DGND (power) "Digital ground", 16 DVDD (power) "Digital supply voltage", 21 DGND (power) "Digital ground", 22 DVDD (power) "Digital supply voltage", 37 SLEEP (in) "Sleep function control input: H - DAC in power-down mode, L - DAC in operating mode. Internal pulldown.", 38 AGND (power) "Analog ground", 42 GSET (in) "Gain-setting mode: H - 1 resistor, L - 2 resistors. Internal pullup.", 43 EXTIO (io) "Internal reference output (bypass with 0.1 uF to AGND) or external reference input", 47 AVDD (power) "Analog supply voltage", 48 MODE (in) "Mode Select: H - Dual Bus, L - Interleaved. Internal pullup."

## Diode
designator VD?
footprint DIODE
pins: A, K

## DIODE_SCHOTTKY_SOD-523F
designator VD?, comment Low Ir
Diode Schottky SMD SOD-523F
footprint SOD523F (SOD-523F; 2 Leads; Body 1.3 x 0.9 mm, (LxW))
pins: A, C K

## DIODE_TVS
designator VD?, comment TVS
footprint SMC30J20CA
pins: A, K

## DIODE_TVS_UNIDIR
designator VD?, comment TVS
pins: A, K

## DIODE_ZENER_SOD323
designator VD?, comment 3.3V
Diode Zener SMD SOD-323; Capacitance @ Vr, F: 7pF @ 10V, 1MHz; Voltage - Forward (Vf) (Max) @ If: 800mV @ 100mA; Current - Average Rectified (Io): 100mA; Diode Type: Schottky; Current - Reverse Leakage @ Vr: 1µA @ 25V; Voltage - DC Reverse (Vr) (Max): 30V; Supplier 1: Digi-Key; Category: Discrete Semiconductor Products; Supplier Device Package: SOD-323; Supplier Part Number 1: CMDSH-3 CT-ND
footprint SOD323 (SOD-323; 2 Leads; Body 1.8 x 1.35 mm, (LxW))
pins: A, K

## EN5339QI
designator IC?
Manufacturer: Altera; Number of Outputs: 1; Voltage - Input (Min): 2.4V; Voltage - Input (Max): 5.5V; Efficiency: 95%; Current - Output (Max): 3A; Voltage - Output 1: 0.6 ~ 4.6 V; Supplier 1: Digi-Key; Mounting Type: Surface Mount; Voltage - Output 3: -; Type: Non-Isolated PoL Module; Applications: ITE (Commercial); Voltage - Output 2: -; Size / Dimension: 0.24" L x 0.16" W x 0.04" H (6.0mm x 4.0mm x 1.1mm); Power (Watts) - Manufacture Series: -; RoHS: RoHS Compliant; Power (Watts) - Max: -; Package / Case: 24-QFN; Packaging: Cut Tape (CT); Operating Temperature: -40°C ~ 85°C; Features: Remote On/Off, OCP, OTP, SCP, UVLO; Category: Power Supplies - Board Mount; Manufacturer Part Number 1: EN5339QI; Voltage - Isolation: -; Supplier Part Number 1: 544-2854-1-ND
footprint EN5339QI
pins: 1 NC(SW), 2 PGND, 3 PGND, 4 VOUT, 5 VOUT, 6 VOUT, 7 VOUT, 8 PGND, 9 PGND, 10 TST2, 11 TST1, 12 TST0, 13 NC, 14 VFB, 15 AGND, 16 AVIN, 17 POK, 18 ENABLE, 19 PVIN, 20 PVIN, 21 NC(SW), 22 NC(SW), 23 NC(SW), 24 NC(SW)

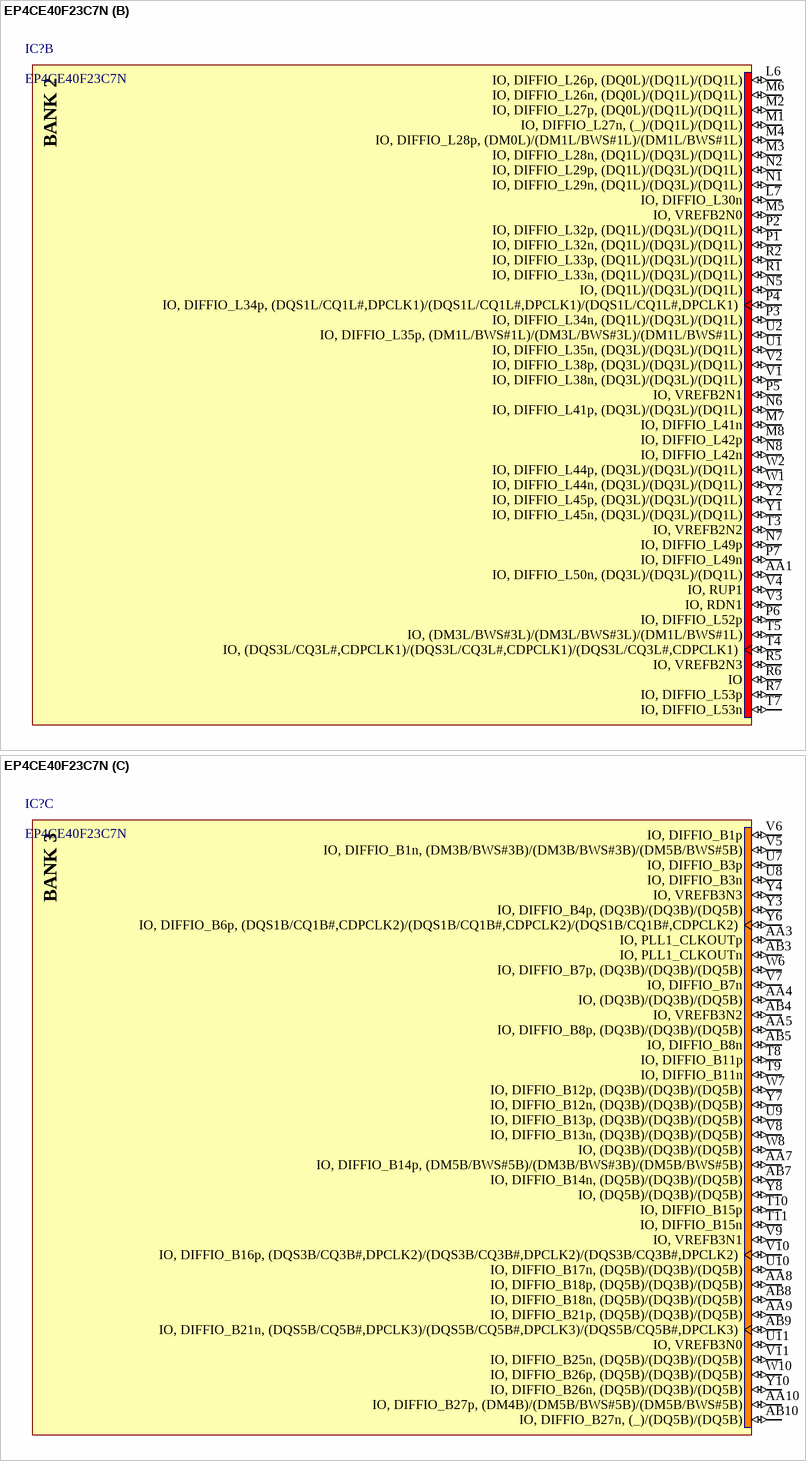
[diagram p18: symbol EP4CE40F23C7N]

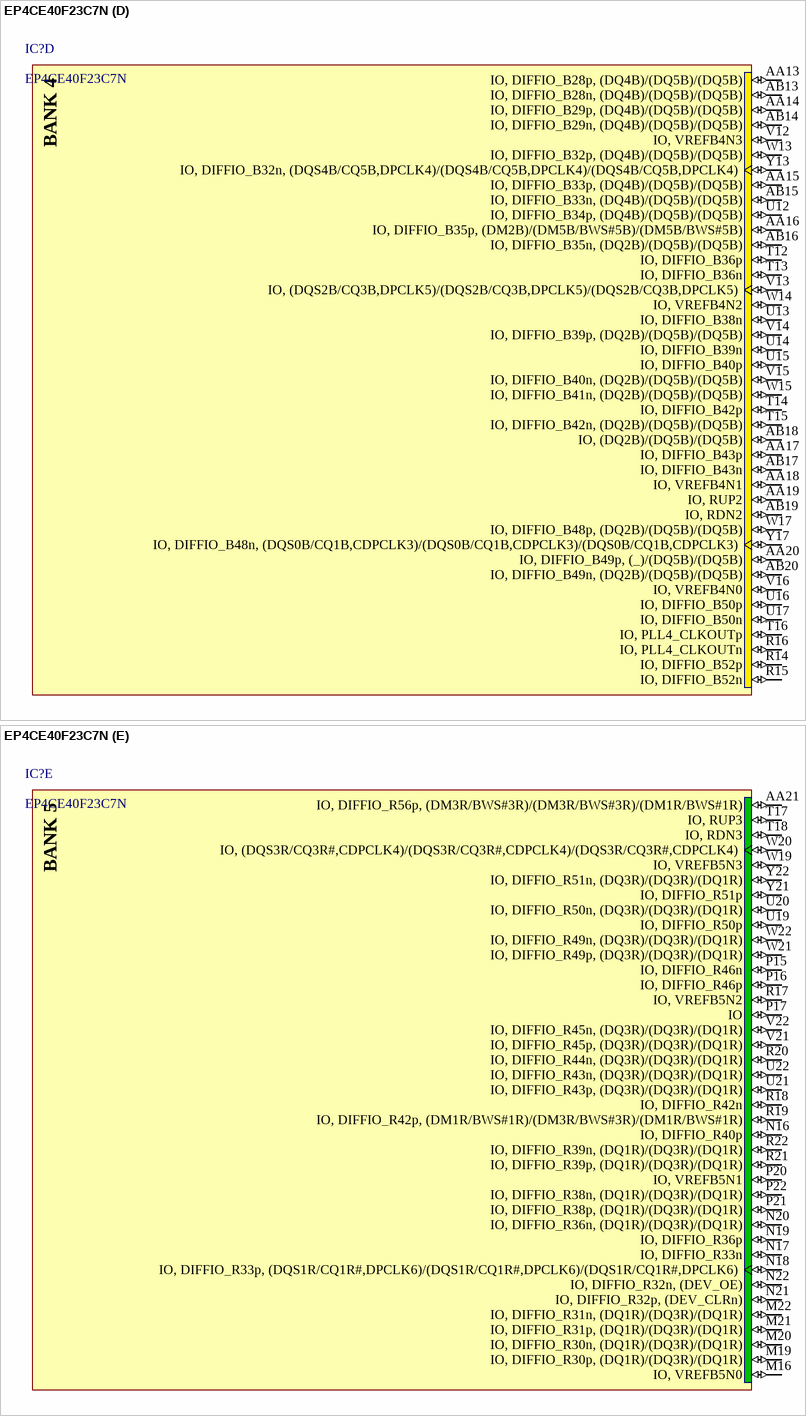
[diagram p19: symbol EP4CE40F23C7N]

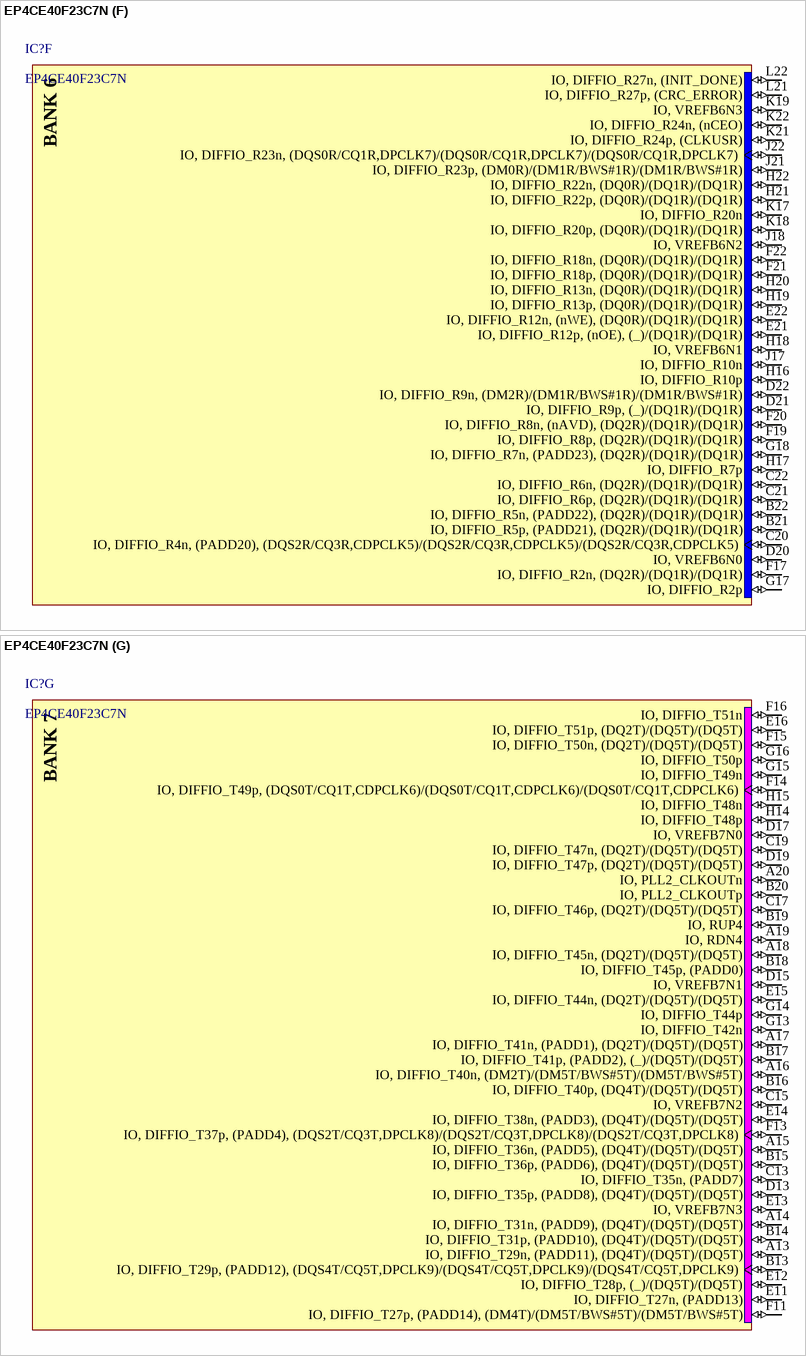
[diagram p20: symbol EP4CE40F23C7N]

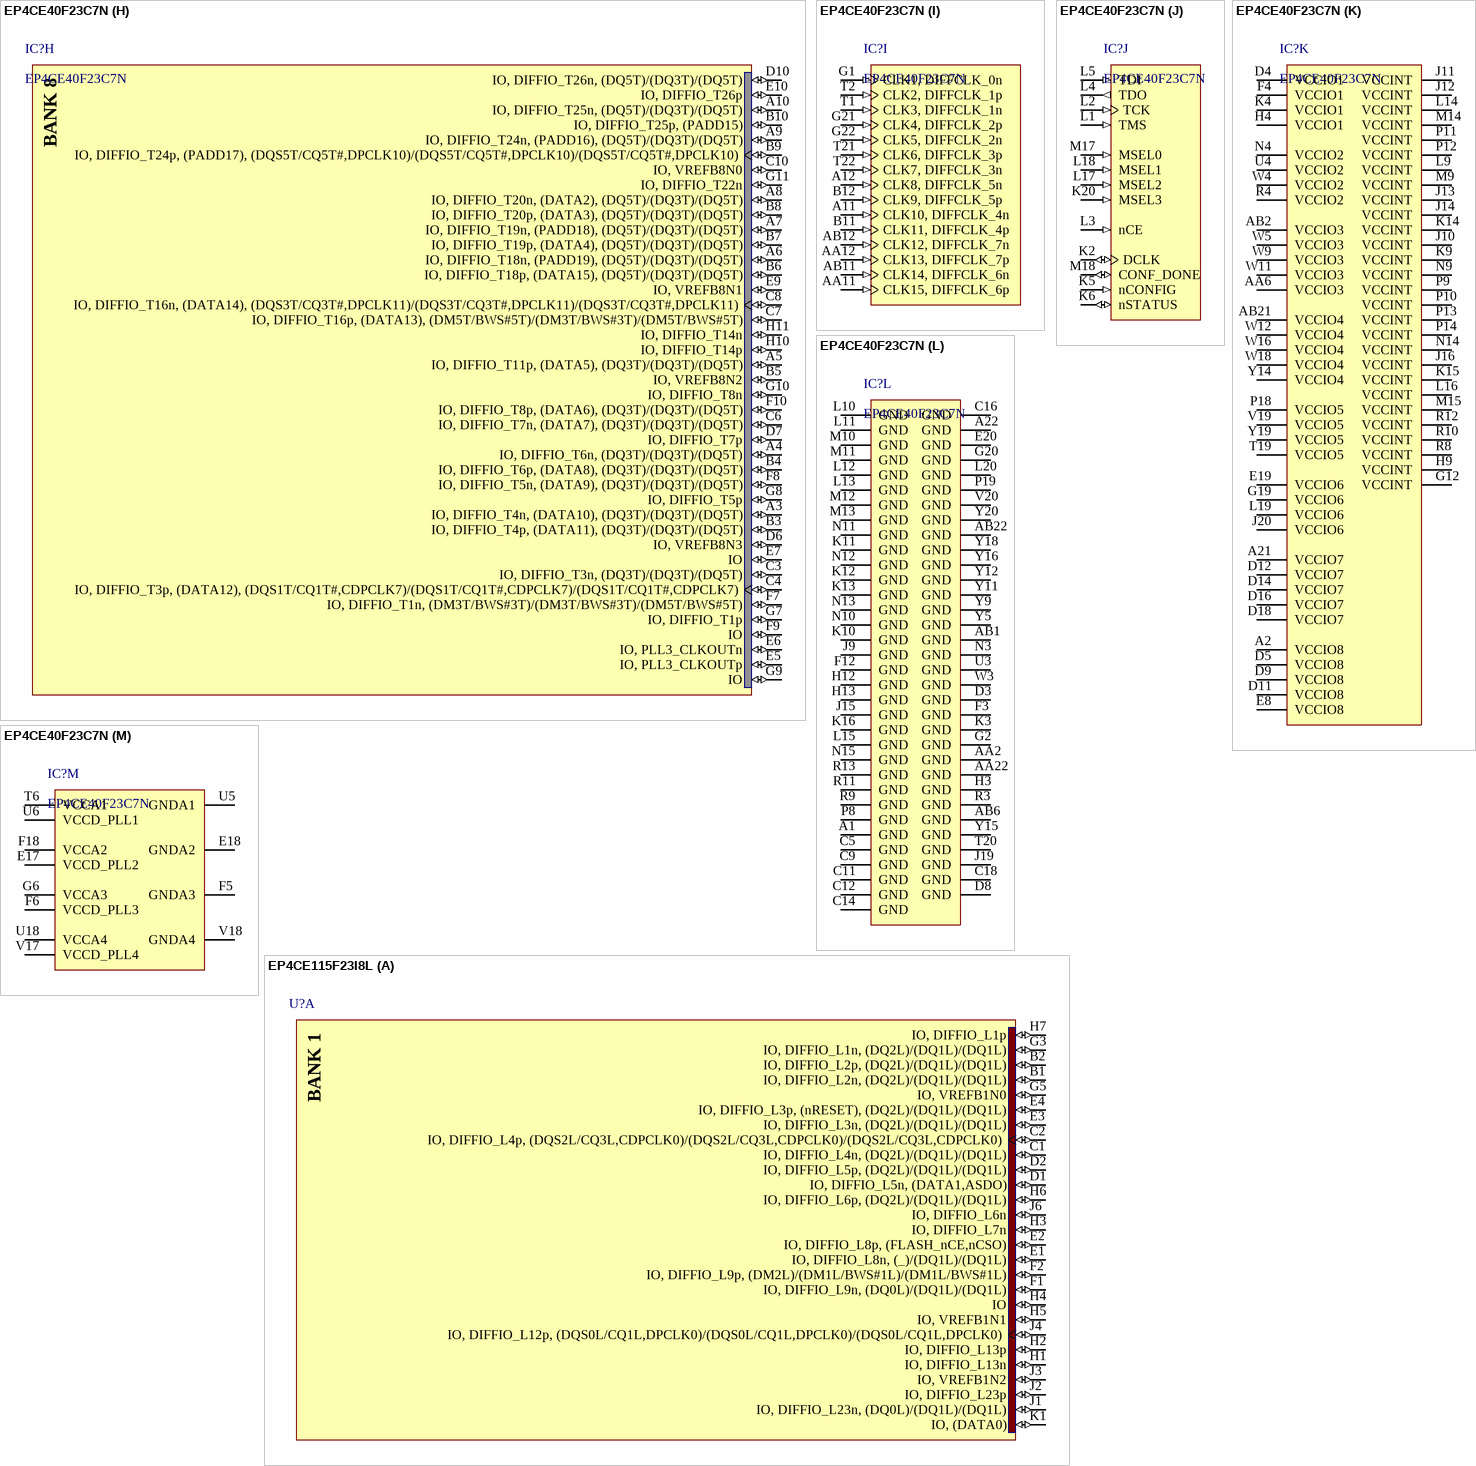
[diagram p21: symbols EP4CE40F23C7N to EP4CE115F23I8L]